# Altium integrated library Led.IntLib: 10 symbols
Pins are listed as number, name and electrical type; pins without a type are passive.

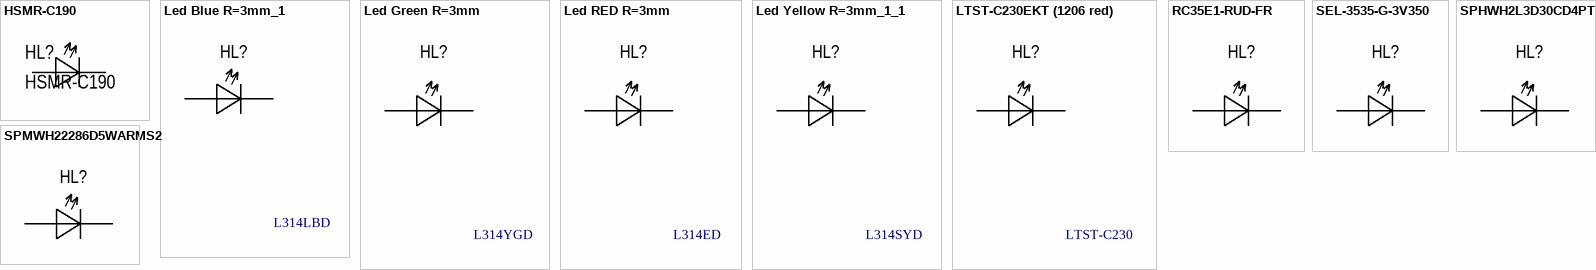
[diagram p0: symbols HSMR-C190 to SPMWH22286D5WARMS2]

## HSMR-C190
designator HL?
LED BLUE DIFFUSED CHIP SMD; Manufacture: Broadcom Limited; Name: Светодиод; Case: 0603 (1608 Metric); HelpURL: https://www.digikey.com/en/products/detail/broadcom-limited/HSMR-C190/1235444?s=N4IgTCBcDaIBIGUCyAlAtAYQIwE4AMIAugL5A; Value: HSMR-C190; Model: HSMR-C190
footprint Led0603
pins: 1 C, 2 A

## Led Blue R=3mm_1
designator HL?, comment L314LBD
Blue 470nm LED Indication - Discrete 3.2V Radial; Manufacture: American Opto Plus LED; Name: Светодиод голубой; Case: Radial 3mm; HelpURL: https://www.digikey.com/en/products/detail/american-opto-plus-led/L314LBD/13686875; Value: L314LBD; Model: L314LBD
footprint Radial Led 3mm (Blue)
pins: A, C

## Led Green R=3mm
designator HL?, comment L314YGD
Yellow-Green 570nm LED Indication - Discrete 2V Radial; Manufacture: American Opto Plus LED; Name: Светодиод зеленый; Case: Radial 3mm; HelpURL: https://www.digikey.com/en/products/detail/american-opto-plus-led/L314YGD/13686876; Value: L314YGD; Model: L314YGD
footprint Radial Led 3mm (Yellow-Green)
pins: A, C

## Led RED R=3mm
designator HL?, comment L314ED
Red 620nm LED Indication - Discrete 1.85V Radial; Manufacture: American Opto Plus LED; Name: Светодиод красный; Case: Radial 3mm; HelpURL: https://www.digikey.com/en/products/detail/american-opto-plus-led/L314ED/13677700; Value: L314ED; Model: L314ED
footprint Radial Led 3mm (Red)
pins: A, C

## Led Yellow R=3mm_1_1
designator HL?, comment L314SYD
Blue 470nm LED Indication - Discrete 3.2V Radial; Manufacture: American Opto Plus LED; Name: Светодиод желтый; Case: Radial 3mm; HelpURL: https://www.digikey.com/en/products/detail/american-opto-plus-led/L314SYD/13686878; Value: L314SYD; Model: L314SYD
footprint Radial Led 3mm (Yellow)
pins: A, C

## LTST-C230EKT (1206 red)
designator HL?, comment LTST-C230
Red 621nm LED Indication - Discrete 2V 1206 (3216 Metric); Manufacture: Lite-On Inc.; Name: Светодиод красный; Model: LTST-C230EKT; Case: 1206; HelpURL: https://www.digikey.com/en/products/detail/lite-on-inc/LTST-C230EKT/269234; Value: LTST-C230
footprint SMD 1206
pins: A, C

## RC35E1-RUD-FR
designator HL?, comment красный  (value not drawn)
3,5x3,5 мм, 120 град, Красный, 615-630 нм, тип. ток 350 мА, макс. ток 700 мА, 1,6-2,6 В, 1 Вт, Упаковка 1000 шт; Manufacture: REFOND; Name: Светодиод; Model: RC35E1-RUD-FR; Case: 3.5x3.5; HelpURL: https://e-neon.ru/moschnyie-svetodiodyi/moschnyie-svetodiodyi-1/rc35e1-rud-fr; Value: красный
footprint LED SMD 3.5x3.5x2-R1.35
pins: A, C

## SEL-3535-G-3V350
designator HL?, comment зеленый  (value not drawn)
3,45x3,45 мм, 120 град, Зелёный, 530 нм, 130 лм, тип. ток 350 мА, макс. ток 1000 мА, 2,6-3,2 В; Manufacture: SUNPU; Name: Светодиод; Model: SEL-3535-G-3V350; Case: 3.5x3.5; HelpURL: https://e-neon.ru/moschnyie-svetodiodyi/moschnyie-svetodiodyi-1/sel-3535-g-2v350; Value: зеленый
footprint LED SMD 3.5x3.5x2-R1.35
pins: A, C

## SPHWH2L3D30CD4PTP3
designator HL?, comment белый  (value not drawn)
3,5x3,5 мм, LH351B, 120 град, Белый, 170-180 лм, тип. ток 350 мА, при 85 C, макс. ток 1500 мА, 2,8 В, тип. 6500 K, мин CRI =70; Manufacture: SAMSUNG LED; Name: Светодиод; Model: SPHWH2L3D30CD4PTP3; Case: 3.5x3.5; HelpURL: https://e-neon.ru/moschnyie-svetodiodyi/moschnyie-svetodiodyi-1/sphwh2l3d30cd4ptp3-q1; Value: белый
footprint LED SMD 3.5x3.5x2-R1.35
pins: A, C

## SPMWH22286D5WARMS2
designator HL?, comment белый  (value not drawn)
SMD 2835, 120°, LM281BA+, белый, 5000K, CRI 80, Uf(typ): 2,8-3,3 В, 25,5-27,5 лм, 60 мА, If(max):80 мА, quarter bin,; Manufacture: SAMSUNG LED; Name: Светодиод; Model: SPMWH22286D5WARMS2; Case: SMD 2835; HelpURL: https://e-neon.ru/svetodiodyi/smd-svetodiodyi/spmwh22286d5warms2; Value: белый
footprint SMD 2835
pins: A, C